# EAGLE library part MAX31725MTA+T (library MAX31725MTA+T)
MAXIM INTEGRATED PRODUCTS - MAX31725MTA+T - Temperature Sensor IC, Digital, +/- 0.7C, -55 C, 150 C, TDFN, 8 Pins Source: Datasheet <https://componentsearchengine.com/Datasheets/2/MAX31725MTA T.pdf>
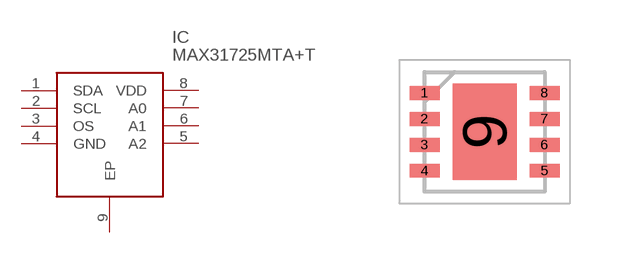
[diagram p0: symbol with the pads of SON65P300X300X80-9N; footprint SON65P300X300X80-9N]

Designator prefix IC

## MAX31725MTA+T (Description: MAXIM INTEGRATED PRODUCTS - MAX31725MTA+T - Temperature Sensor IC, Digital, +/- 0.7C, -55 C, 150 C, TDFN, 8 Pins; Height: 0.8mm; Manufacturer_Name: Analog Devices; Manufacturer_Part_Number: MAX31725MTA+T; Mouser_Part_Number: 700-MAX31725MTA+T; Mouser_Price-Stock: https://www.mouser.co.uk/ProductDetail/Maxim-Integrated/MAX31725MTA%2bT?qs=g0UVtq9Ld0PiC3hwpsy9Mw%3D%3D)  [SON65P300X300X80-9N]
1  SDA
2  SCL
3  OS
4  GND
5  A2
6  A1
7  A0
8  VDD
9  EP

## Footprint SON65P300X300X80-9N (pad centres in mm)
T833+2
smd 0.75 x 0.35: 1 -1.5,0.975; 2 -1.5,0.325; 3 -1.5,-0.325; 4 -1.5,-0.975; 5 1.5,-0.975; 6 1.5,-0.325; 7 1.5,0.325; 8 1.5,0.975
smd 1.6 x 2.4: 9 0,0